# Altium schematic symbol library Connector.SchLib: 8 symbols
Pins are listed as number, name and electrical type; pins without a type are passive.

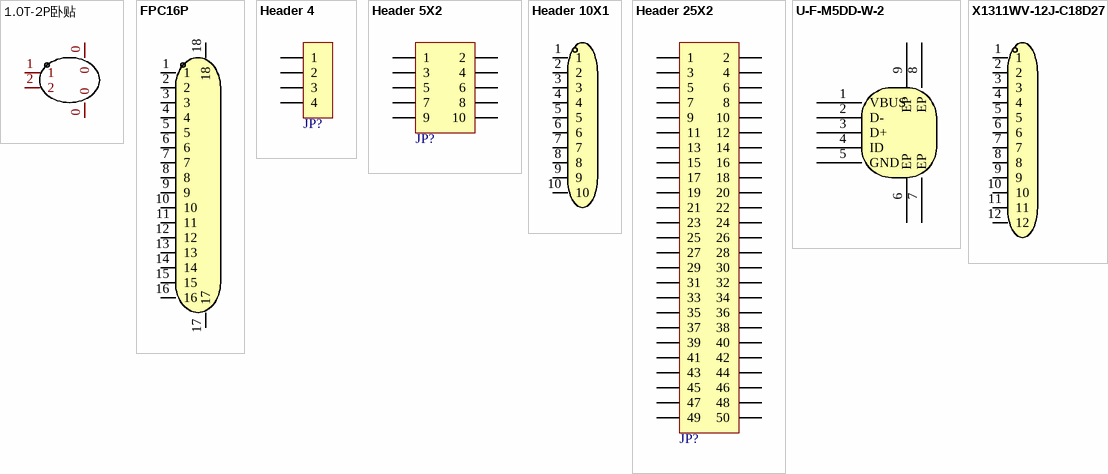
[diagram p0: symbols 1.0T-2P卧贴 to X1311WV-12J-C18D27]

## 1.0T-2P卧贴
designator CN??  (value not drawn)
锂电池接口; Manufacturer: BOOMELE(博穆精密); Symbol: 1.0T-2P_C145954; Add into BOM: yes; Reference Series: SH; Pitch: 1mm; Pins Structure: 1x2P; Number of PINs Per Row: 2; Name: 1.0T-2P卧贴; Device: 1.0T-2P卧贴; LCSC Part Name: SH 1mm 1x2P 卧贴; Supplier Part: C145954; Manufacturer Part: 1.0T-2P卧贴; Supplier Footprint: SMD,P=1mm; JLCPCB Part Class: Extended Part; Datasheet: https://atta.szlcsc.com/upload/public/pdf/source/20171115/C145954_15107293403501120439.pdf; Supplier: LCSC; Convert to PCB: yes; Number of Rows: 1; Row Spacing: -; Mounting Style: -; Contact Material: 磷铜
footprint CONN-SMD_1.0T-2P
3D model CONN-SMD_SH1.00-WS-2P
pins: 0, 0, 1, 2

## FPC16P
designator FPC??, comment 1.0K-DX-16PWB  (value not drawn)
软排线接口16P; Manufacturer: HDGC(华德共创); Add into BOM: yes; Pitch: 1mm; Number of Contacts: 16; Locking Feature: 翻盖式; FFC, FCB Thickness: 0.3mm; Name: 1.0K-DX-16PWB; Symbol: 1.0K-DX-16PWB; Device: 1.0K-DX-16PWB; LCSC Part Name: 1mm P数:16 翻盖式 下接 D型; Supplier Part: C2915447; Manufacturer Part: 1.0K-DX-16PWB; Supplier Footprint: SMD,P=1mm; JLCPCB Part Class: Extended Part; Datasheet: https://atta.szlcsc.com/upload/public/pdf/source/20211109/20C01A8270A5DB2C0F8B9DB944B0755A.pdf; Supplier: LCSC; Convert to PCB: yes; Mounting Type: 卧贴; Contact Type: 下接; Height Above Board: 2mm; Operating Temperature Range: -20℃~+85℃
footprint FPC-SMD_16P-P1.00_HDGC_1.0K-DX-16PWB
3D model FPC-SMD_16P-P1.00_HDGC_1.0K-DX-16PWB
pins: 1, 2, 3, 4, 5, 6, 7, 8, 9, 10, 11, 12, 13, 14, 15, 16, 17, 18

## Header 4
designator JP?, comment SWD  (value not drawn)
4P接插件; 版权归属: 源创客; BOM名称: 4P接插件; 学习资源: www.ooocke.com
footprint XH2.54-WI-4P (接插件，4P)
footprint XH2.54-LI-4P (接插件，4P)
footprint HDR2.54-LI-4P (排针，4脚)
footprint HDR2.54-M-LI-4P (排母，4脚)
footprint HDR2.54-WI-4P (弯脚排针，4脚)
footprint HDR2.54-WS-4P (4P卧式贴片排针2.54)
footprint HDR2.54-Y-LI-4P (圆孔排母，4脚)
footprint HDR2.54-M-WS-4P (4P卧式贴片排母2.54)
footprint KF2510-LI-4P (接插件/2A)
footprint XH2.54-WS-4P (长：15mm，宽：8mm，高：6.1mm)
footprint XH2.54-LS-4P (长：15mm，宽：6mm，高：8.3mm)
footprint KF2EDGK-2.54-LI-4P (长：12.06mm，宽：8.1mm，高：10.1mm)
footprint KF2EDGK-2.54-WI-4P (长：12.06mm，宽：10.1mm，高：8.1mm)
pins: 1, 2, 3, 4

## Header 5X2
designator JP?  (value not drawn)
5*2P接插件; 版权归属: 源创客; BOM名称: 5*2P接插件; 学习资源: www.ooocke.com
footprint IDC2.54-LI-2x5P (10P简易牛角座)
footprint HDR2.54-LI-2x5P (双排排针，5x2脚)
footprint HDR2.54-M-LS-2x5P (脚距：2.54mm，贴片双排母)
footprint HDR2.54-WI-2x5P (双排弯脚排针，5x2脚)
pins: 1, 2, 3, 4, 5, 6, 7, 8, 9, 10

## Header 10X1
designator J?  (value not drawn)
10P*1接插件; Symbol: MF254V-11-10-1000-H70; Designer: U?; Device: MF254V-11-10-1000-H70
pins: 1, 2, 3, 4, 5, 6, 7, 8, 9, 10

## Header 25X2
designator JP?, comment Header 2X25  (value not drawn)
25*2P接插件; BOM名称: 20*2P接插件; 版权归属: 源创客; 学习资源: www.ooocke.com
footprint IDC2.54-LI-2x25P (50P简易牛角座)
footprint HDR2.54-LI-2x25P (双排排针，25x2脚)
pins: 1, 2, 3, 4, 5, 6, 7, 8, 9, 10, 11, 12, 13, 14, 15, 16, 17, 18, 19, 20, 21, 22, 23, 24, 25, 26, 27, 28, 29, 30, 31, 32, 33, 34, 35, 36, 37, 38, 39, 40, 41, 42, 43, 44, 45, 46, 47, 48, 49, 50

## U-F-M5DD-W-2
designator USB??  (value not drawn)
Manufacturer: 韩国韩荣; Add into BOM: yes; Connector Type: Micro-B; Gender: 母座; Number of Contacts: 5; Number of Ports: 1; Name: U-F-M5DD-W-2; Symbol: U-F-M5DD-W-2; Device: U-F-M5DD-W-2; LCSC Part Name: U-F-M5DD-W-2; Supplier Part: C145793; Manufacturer Part: U-F-M5DD-W-2; Supplier Footprint: -; JLCPCB Part Class: Extended Part; Datasheet: https://atta.szlcsc.com/upload/public/pdf/source/20200930/C879723_6542CD70930DA81B6877F7A914B29468.pdf; Supplier: LCSC; Convert to PCB: yes; Standard: USB 2
footprint MICRO-USB-SMD_MICRO-USB-A17
3D model MICRO-USB-SMD_MICRO-USB-A17
pins: 1 VBUS, 2 D-, 3 D+, 4 ID, 5 GND, 6 EP, 7 EP, 8 EP, 9 EP

## X1311WV-12J-C18D27
designator H??  (value not drawn)
Manufacturer: XKB Connectivity(中国星坤); Add into BOM: yes; Pitch: 1.27mm; Pin Structure: 1x12P; Circluar Pins/Square Pins: 方针; Current Rating (Max): 1A; Voltage Rating (Max): 250V; Welding Temperature (Max): 260℃; Name: X1311WV-12J-C18D27; Symbol: X1311WV-12J-C18D27; Device: X1311WV-12J-C18D27; LCSC Part Name: 1.27mm 1x12P 直插 方针; Supplier Part: C2881657; Manufacturer Part: X1311WV-12J-C18D27; Supplier Footprint: 直插,P=1.27mm; JLCPCB Part Class: Extended Part; Datasheet: https://atta.szlcsc.com/upload/public/pdf/source/20211011/BDECBA1A8033BEEEAFBA4B601EFBF35E.pdf; Supplier: LCSC; Convert to PCB: yes; Number of Rows: 单排; Number of Pins: 12; Row Spacing: -; Mounting Type: 直插; Length of Mating Pin: 2.7mm; Insulation Height: 1mm; Length of End Connection Pin: 1.8mm; Contact Material: 黄铜; Contact Plating: 金; Operating Temperature Range: -40℃~+105℃; Color: 黑色
footprint HDR-TH_12P-P1.27-V-M
3D model HDR-TH_12P-P1.27-V-M
pins: 1, 2, 3, 4, 5, 6, 7, 8, 9, 10, 11, 12